# Altium footprint library SIP4.PcbLib: 1 footprints
Each footprint in its own frame and in the unit in brackets; x right, y up, seen from the top. Pads: shape width x height; smd on the part's side, far side on the other; paste and mask are expansions set on the pad; w line width, h text height; cw(c..) or ccw(c..) is an arc to the next point about the centre after c.
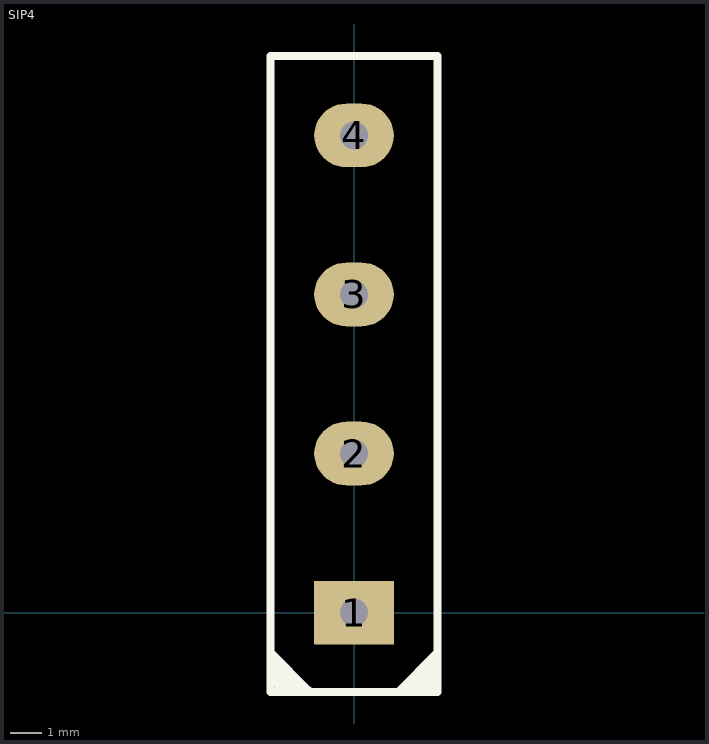
[diagram p0: the footprint, top view; thin cyan lines are the x and y axes]

## SIP4 [mil]
pads (4):
  rect 100x80 hole 35: 1(0,0)
  oval 100x80 hole 35: 2(0,200) 3(0,400) 4(0,600)
Top Overlay:
  lines w10: -103.06,-82.94 -103.06,-83.94 -90.06,-96.94 ; -103.06,-75.94 -101.06,-75.94 -80.06,-96.94 ; -103.06,-61.94 -68.06,-96.94 ; -103.06,-51.94 -58.06,-96.94 ; -102.06,-54.94 -60.06,-96.94 ; 55,-100 105,-50 ; 70,-95 105,-60 ; 82,-95 101,-76 ; 94,-95 105,-84 ; -105,-100 -105,700 105,700 105,-100 -105,-100